# Altium schematic symbol library RF_Trans_50Ohm_Minicircuits_TC1-1-13M.SchLib: 1 symbol
Pins are listed as number, name and electrical type; pins without a type are passive.

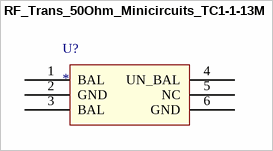
[diagram p0: symbol RF_Trans_50Ohm_Minicircuits_TC1-1-13M]

## RF_Trans_50Ohm_Minicircuits_TC1-1-13M
designator U?
pins: 1 BAL, 2 GND, 3 BAL, 4 UN_BAL, 5 NC, 6 GND